# Altium footprint library PCB - CONNECTOR - TENSILITY - TENSILITY 54-00176.PcbLib: 1 footprints
Each footprint in its own frame and in the unit in brackets; x right, y up, seen from the top. Pads: shape width x height; smd on the part's side, far side on the other; paste and mask are expansions set on the pad; w line width, h text height; cw(c..) or ccw(c..) is an arc to the next point about the centre after c.
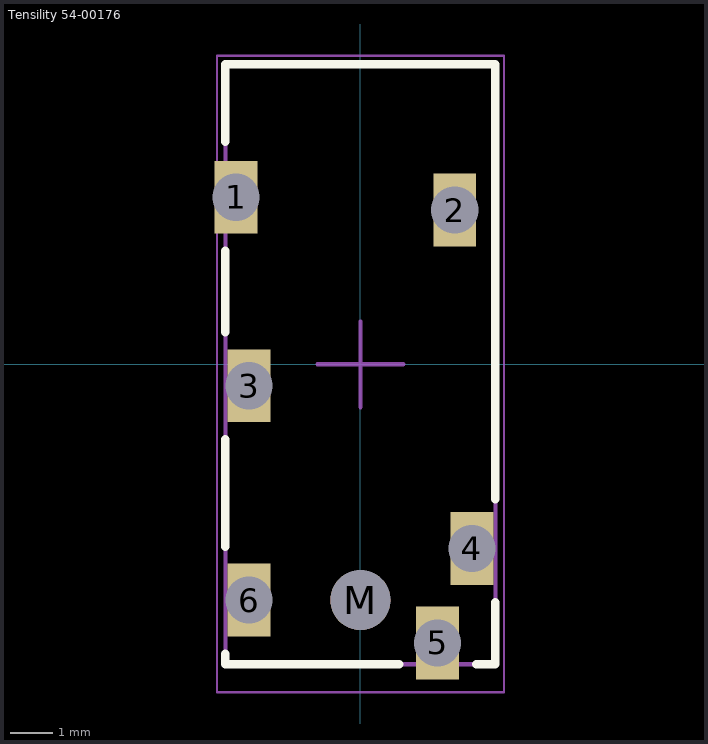
[diagram p0: the footprint, top view; thin cyan lines are the x and y axes]

## Tensility 54-00176 [mm] "3.50mm (0.141\", 1/8\", Mini Plug) - Headphone Phone Jack Stereo (4 Conductor, TRRS) Connector Solder"
height 4
pads (7):
  rect 1x1.7 hole 1.1 square: 1(-2.9,3.9) 2(2.2,3.6) 3(-2.6,-0.5) 4(2.6,-4.3) 5(1.8,-6.5) 6(-2.6,-5.5)
  round 1.4 hole 1.4 unplated: M(0,-5.5)
Top Overlay:
  lines w0.2: -3.15,-6.75 -3.15,-7 ; -3.15,-4.25 -3.15,-1.75 ; -3.15,0.75 -3.15,2.65 ; -3.15,5.3 -3.15,5.2 -3.15,7 3.15,7 3.15,1.75 3.15,-3.15 ; 0.9,-7 -3.15,-7 ; 3.15,-5.55 3.15,-7 ; -3.15,-7 -3.15,-7 ; 2.7,-7 2.7,-7 ; 2.7,-7 3.15,-7 ; 3.15,-7 3.15,-7
Mechanical 13:
  lines w0.1: -3.15,-7 -3.15,7 3.15,7 3.15,-7 -3.15,-7
Mechanical 15:
  lines w0.05: -3.35,-7.65 -3.35,7.2 3.35,7.2 3.35,-7.65 -3.35,-7.65
  lines w0.1: -1,0 0,0 ; 0,-1 0,0 ; 0,1 0,0 ; 1,0 0,0
3D body "Tensility - 54-00176 v4.step": height 4.35, standoff -2, extent -3.15,-7 3.15,7